# Altium schematic symbol library MainLibrary.SchLib: 144 symbols (part 1 of 2)
Pins are listed as number, name and electrical type; pins without a type are passive.

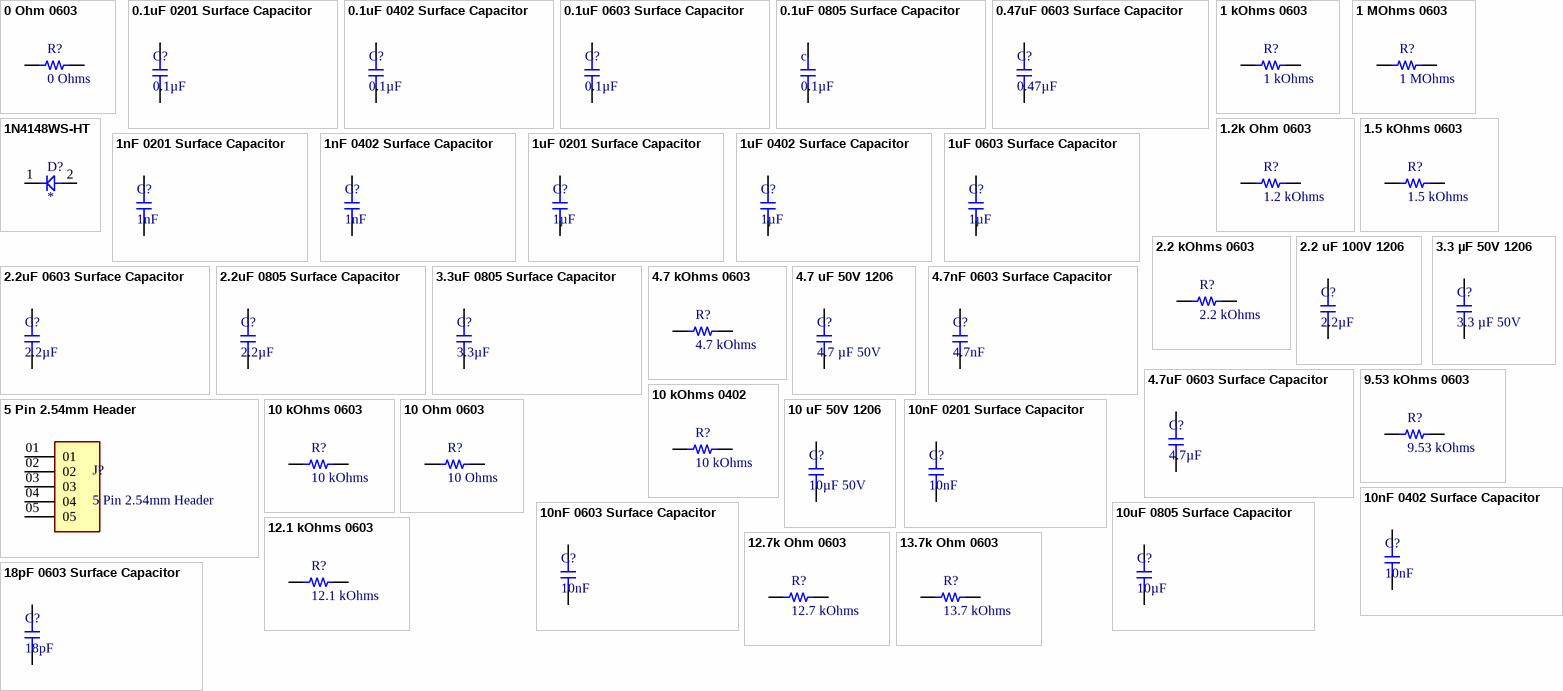
[diagram p0: symbols 0 Ohm 0603 to 18pF 0603 Surface Capacitor]

## 0 Ohm 0603
designator R?, comment 0 Ohms
0 Ohm 0603
footprint 0603_RES
pins: 1, 2

## 0.1uF 0201 Surface Capacitor
designator C?, comment 0.1µF
0.1uF 0201 Surface Capacitor
footprint 0201_CAP
pins: 1, 2

## 0.1uF 0402 Surface Capacitor
designator C?, comment 0.1µF
0.1uF 0402 Surface Capacitor
footprint 0402_CAP
pins: 1, 2

## 0.1uF 0603 Surface Capacitor
designator C?, comment 0.1µF
0.1uF 0603 Surface Capacitor
footprint 0603_Footprint
pins: 1, 2

## 0.1uF 0805 Surface Capacitor
designator c, comment 0.1µF
0.1uF 0805 Surface Capacitor
footprint 0805
pins: 1, 2

## 0.47uF 0603 Surface Capacitor
designator C?, comment 0.47µF
0.47uF 0603 Surface Capacitor
footprint 0603_Footprint
pins: 1, 2

## 1 kOhms 0603
designator R?, comment 1 kOhms
1 kOhms 0603
footprint 0603_RES
pins: 1, 2

## 1 MOhms 0603
designator R?, comment 1 MOhms
1 MOhms 0603
footprint 0603_RES
pins: 1, 2

## 1.2k Ohm 0603
designator R?, comment 1.2 kOhms
1.2k Ohm 0603
footprint 0603_RES
pins: 1, 2

## 1.5 kOhms 0603
designator R?, comment 1.5 kOhms
1.5 kOhms 0603
footprint 0603_RES
pins: 1, 2

## 1N4148WS-HT
designator D?
75V 150mA Fast Switching Diode SMD; Manufacturer_Name: Vishay; Manufacturer_Part_Number: 1N4148WS-HT; Datasheet Link: https://www.vishay.com/docs/85751/1n4148ws.pdf; Height: 1.15mm; Mouser Part Number: 1N4148WS-HT; Mouser Price/Stock: https://www.mouser.co.uk/ProductDetail/Vishay-Semiconductors/1N4148WS-E3-18?qs=bTzheeSci6SMGZleBxLU%2Fg%3D%3D; Arrow Part Number: 1N4148WS-E3-18; Arrow Price/Stock: https://www.arrow.com/en/products/1n4148ws-e3-18/vishay?region=nac
footprint SOD2713X115N
pins: 1 K, 2 A

## 1nF 0201 Surface Capacitor
designator C?, comment 1nF
1nF 0201 Surface Capacitor
footprint 0201_CAP
pins: 1, 2

## 1nF 0402 Surface Capacitor
designator C?, comment 1nF
1nF 0402 Surface Capacitor
footprint 0402_CAP
pins: 1, 2

## 1uF 0201 Surface Capacitor
designator C?, comment 1µF
1uF 0201 Surface Capacitor
footprint 0201_CAP
pins: 1, 2

## 1uF 0402 Surface Capacitor
designator C?, comment 1µF
1uF 0402 Surface Capacitor
footprint 0402_CAP
pins: 1, 2

## 1uF 0603 Surface Capacitor
designator C?, comment 1µF
1uF 0603 Surface Capacitor
footprint 0603_Footprint
pins: 1, 2

## 2.2 kOhms 0603
designator R?, comment 2.2 kOhms
2.2 kOhms 0603
footprint 0603_RES
pins: 1, 2

## 2.2 uF 100V 1206
designator C?, comment 2.2µF
2.2 uF 100V 1206
footprint 1206_10uF
pins: 1, 2

## 2.2uF 0603 Surface Capacitor
designator C?, comment 2.2µF
2.2uF 0603 Surface Capacitor
footprint 0603_Footprint
pins: 1, 2

## 2.2uF 0805 Surface Capacitor
designator C?, comment 2.2µF
2.2uF 0805 Surface Capacitor
footprint 0805
pins: 1, 2

## 3.3 µF 50V 1206
designator C?, comment 3.3 µF 50V
3.3 µF 50V 1206
footprint 1206_10uF
pins: 1, 2

## 3.3uF 0805 Surface Capacitor
designator C?, comment 3.3µF
3.3uF 0805 Surface Capacitor
footprint 0805
pins: 1, 2

## 4.7 kOhms 0603
designator R?, comment 4.7 kOhms
4.7 kOhms 0603
footprint 0603_RES
pins: 1, 2

## 4.7 uF 50V 1206
designator C?, comment 4.7 µF 50V
10 uF 50V 1206
footprint 1206_10uF
pins: 1, 2

## 4.7nF 0603 Surface Capacitor
designator C?, comment 4.7nF
4.7nF 0603 Surface Capacitor
footprint 0603_Footprint
pins: 1, 2

## 4.7uF 0603 Surface Capacitor
designator C?, comment 4.7µF
4.7uF 0603 Surface Capacitor
footprint 0603_Footprint
pins: 1, 2

## 5 Pin 2.54mm Header
designator J?
Generic 2.54MM 5 Pin Header; MP: MTSW-105-09-G-S-480; Availability: Unavailable; Package: None; Value: *; Price: None
footprint 5PIN_254MM
pins: 01, 02, 03, 04, 05

## 9.53 kOhms 0603
designator R?, comment 9.53 kOhms
9.53 kOhms 0603
footprint 0603_RES
pins: 1, 2

## 10 kOhms 0402
designator R?, comment 10 kOhms
10 kOhm 0402
footprint 0402_RES
pins: 1, 2

## 10 kOhms 0603
designator R?, comment 10 kOhms
10 kOhms 0603
footprint 0603_RES
pins: 1, 2

## 10 Ohm 0603
designator R?, comment 10 Ohms
10 Ohms 0603
footprint 0603_RES
pins: 1, 2

## 10 uF 50V 1206
designator C?, comment 10µF 50V
10 uF 50V 1206
footprint 1206_10uF
pins: 1, 2

## 10nF 0201 Surface Capacitor
designator C?, comment 10nF
10nF 0201 Surface Capacitor
footprint 0201_CAP
pins: 1, 2

## 10nF 0402 Surface Capacitor
designator C?, comment 10nF
10nF 0402 Surface Capacitor
footprint 0402_CAP
pins: 1, 2

## 10nF 0603 Surface Capacitor
designator C?, comment 10nF
10nF 0603 Surface Capacitor
footprint 0603_Footprint
pins: 1, 2

## 10uF 0805 Surface Capacitor
designator C?, comment 10µF
10uF 0805 Surface Capacitor
footprint 0805
pins: 1, 2

## 12.1 kOhms 0603
designator R?, comment 12.1 kOhms
12.1 kOhms 0603
footprint 0603_RES
pins: 1, 2

## 12.7k Ohm 0603
designator R?, comment 12.7 kOhms
12.7k Ohm 0603
footprint 0603_RES
pins: 1, 2

## 13.7k Ohm 0603
designator R?, comment 13.7 kOhms
13.7 kOhms 0603
footprint 0603_RES
pins: 1, 2

## 18pF 0603 Surface Capacitor
designator C?, comment 18pF
18pF 0603 Surface Capacitor
footprint 0603_Footprint
pins: 1, 2

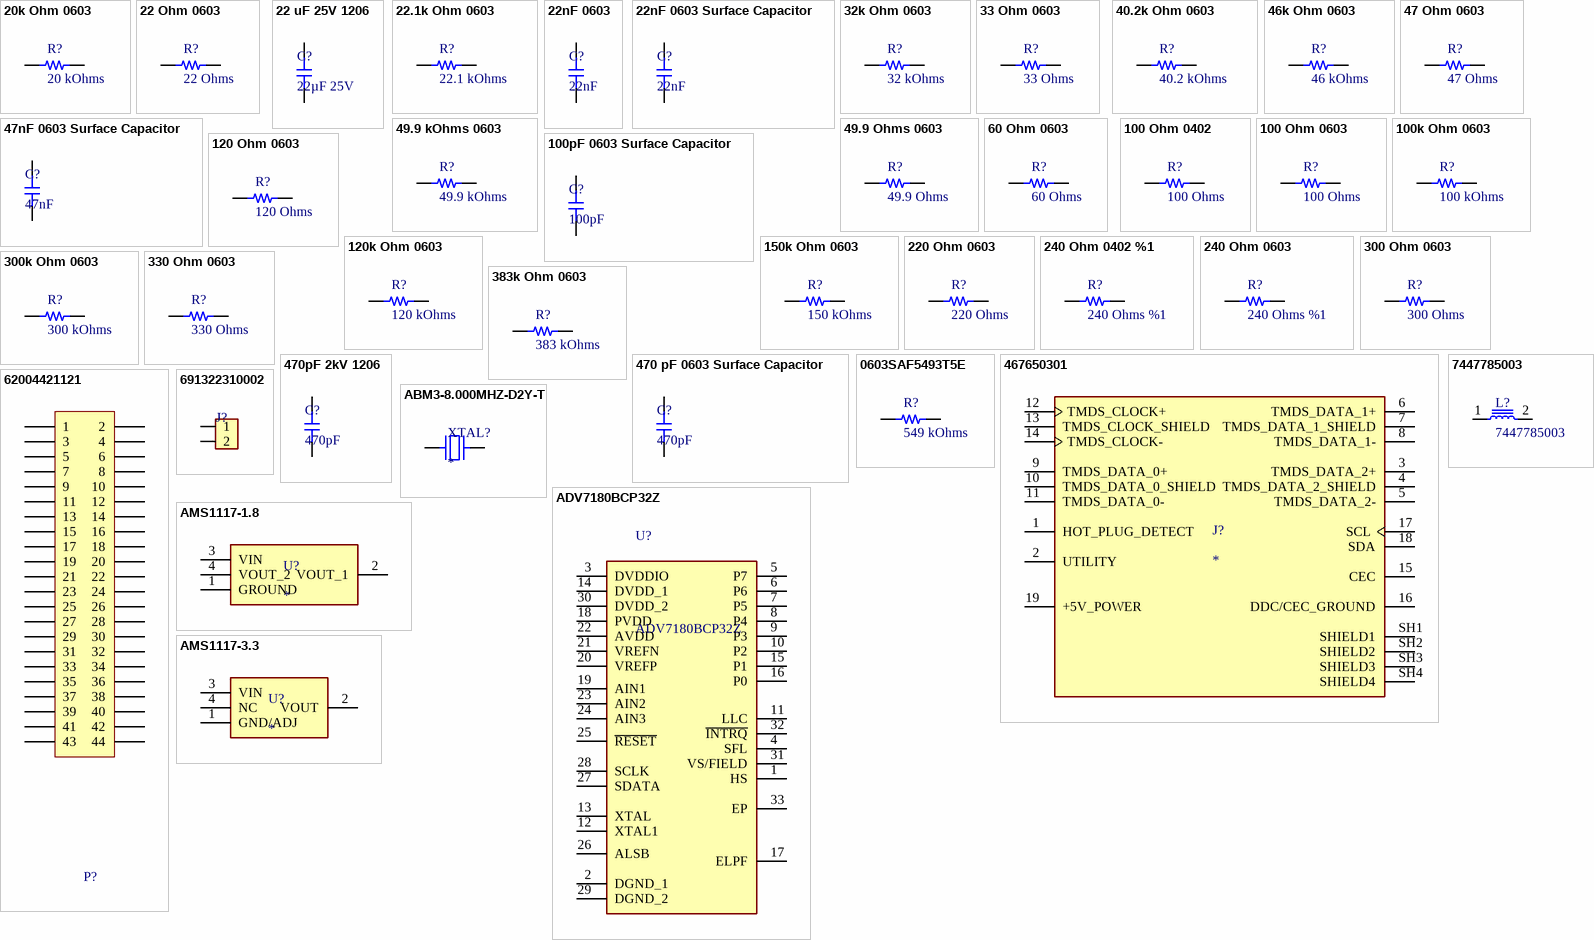
[diagram p1: symbols 20k Ohm 0603 to AMS1117-3.3]

## 20k Ohm 0603
designator R?, comment 20 kOhms
20k Ohm 0603
footprint 0603_RES
pins: 1, 2

## 22 Ohm 0603
designator R?, comment 22 Ohms
22 Ohms 0603
footprint 0603_RES
pins: 1, 2

## 22 uF 25V 1206
designator C?, comment 22µF 25V
22 uF 25V 1206
footprint 1206_10uF
pins: 1, 2

## 22.1k Ohm 0603
designator R?, comment 22.1 kOhms
22.1 kOhms 0603
footprint 0603_RES
pins: 1, 2

## 22nF 0603
designator C?, comment 22nF
22nF 0603 Surface Capacitor
footprint 0603_Footprint
pins: 1, 2

## 22nF 0603 Surface Capacitor
designator C?, comment 22nF
22nF 0603 Surface Capacitor
footprint 0603_Footprint
pins: 1, 2

## 32k Ohm 0603
designator R?, comment 32 kOhms
32k Ohm 0603
footprint 0603_RES
pins: 1, 2

## 33 Ohm 0603
designator R?, comment 33 Ohms
33 Ohm 0603
footprint 0603_RES
pins: 1, 2

## 40.2k Ohm 0603
designator R?, comment 40.2 kOhms
40.2k Ohm 0603
footprint 0603_RES
pins: 1, 2

## 46k Ohm 0603
designator R?, comment 46 kOhms
46k Ohm 0603
footprint 0603_RES
pins: 1, 2

## 47 Ohm 0603
designator R?, comment 47 Ohms
47 Ohm 0603
footprint 0603_RES
pins: 1, 2

## 47nF 0603 Surface Capacitor
designator C?, comment 47nF
47nF 0603 Surface Capacitor
footprint 0603_Footprint
pins: 1, 2

## 49.9 kOhms 0603
designator R?, comment 49.9 kOhms
49.9 kOhms 0603
footprint 0603_RES
pins: 1, 2

## 49.9 Ohms 0603
designator R?, comment 49.9 Ohms
49.9 Ohms 0603
footprint 0603_RES
pins: 1, 2

## 60 Ohm 0603
designator R?, comment 60 Ohms
60 Ohm 0603
footprint 0603_RES
pins: 1, 2

## 100 Ohm 0402
designator R?, comment 100 Ohms
100 Ohm 0402
footprint 0402_RES
pins: 1, 2

## 100 Ohm 0603
designator R?, comment 100 Ohms
100 Ohm 0603
footprint 0603_RES
pins: 1, 2

## 100k Ohm 0603
designator R?, comment 100 kOhms
100k Ohm 0603
footprint 0603_RES
pins: 1, 2

## 100pF 0603 Surface Capacitor
designator C?, comment 100pF
100pF 0603 Surface Capacitor
footprint 0603_Footprint
pins: 1, 2

## 120 Ohm 0603
designator R?, comment 120 Ohms
120 Ohm 0603
footprint 0603_RES
pins: 1, 2

## 120k Ohm 0603
designator R?, comment 120 kOhms
120k Ohm 0603
footprint 0603_RES
pins: 1, 2

## 150k Ohm 0603
designator R?, comment 150 kOhms
150k Ohm 0603
footprint 0603_RES
pins: 1, 2

## 220 Ohm 0603
designator R?, comment 220 Ohms
220 Ohms 0603
footprint 0603_RES
pins: 1, 2

## 240 Ohm 0402 %1
designator R?, comment 240 Ohms %1
240 Ohm 0402 %1
footprint 0402_RES
pins: 1, 2

## 240 Ohm 0603
designator R?, comment 240 Ohms %1
footprint 0603_RES
pins: 1, 2

## 300 Ohm 0603
designator R?, comment 300 Ohms
300 Ohm 0603
footprint 0603_RES
pins: 1, 2

## 300k Ohm 0603
designator R?, comment 300 kOhms
300k Ohm 0603
footprint 0603_RES
pins: 1, 2

## 330 Ohm 0603
designator R?, comment 330 Ohms
330 Ohm 0603
footprint 0603_RES
pins: 1, 2

## 383k Ohm 0603
designator R?, comment 383 kOhms
383k Ohm 0603
footprint 0603_RES
pins: 1, 2

## 470 pF 0603 Surface Capacitor
designator C?, comment 470pF
470 pF 0603 Surface Capacitor
footprint 0603_Footprint
pins: 1, 2

## 470pF 2kV 1206
designator C?, comment 470pF
470pF 2kV 1206
footprint 1206_10uF
pins: 1, 2

## 0603SAF5493T5E
designator R?, comment 549 kOhms
0805 549 kOhms 5% 1/8W-S 100PPM
footprint 0603_RES
pins: 1, 2

## 467650301
designator J?
0.40mm Pitch Micro HDMI Connector, Right-Angle Receptacle, Surface Mount, with Pick-and-Place Polyimide Tape, 19 Circuits, Lead-Free; MF: Molex; MP: 467650301; SnapEDA_Link: https://www.snapeda.com/parts/467650301/Molex/view-part/?ref=snap; Package: None; Value: *; Check_prices: https://www.snapeda.com/parts/467650301/Molex/view-part/?ref=eda
footprint MOLEX_467650301
pins: 1 HOT_PLUG_DETECT, 2 UTILITY, 3 TMDS_DATA_2+, 4 TMDS_DATA_2_SHIELD, 5 TMDS_DATA_2-, 6 TMDS_DATA_1+, 7 TMDS_DATA_1_SHIELD, 8 TMDS_DATA_1-, 9 TMDS_DATA_0+, 10 TMDS_DATA_0_SHIELD, 11 TMDS_DATA_0-, 12 TMDS_CLOCK+, 13 TMDS_CLOCK_SHIELD, 14 TMDS_CLOCK-, 15 CEC, 16 DDC/CEC_GROUND, 17 SCL, 18 SDA, 19 +5V_POWER, SH1 SHIELD1, SH2 SHIELD2, SH3 SHIELD3, SH4 SHIELD4

## 7447785003
designator L?
7447785003 2.8A Inductor; Manufacturer_Name: Vishay; Manufacturer_Part_Number: IHLP2525CZER220M8A; Datasheet Link: https://componentsearchengine.com/Datasheets/2/IHLP2525CZER220M8A.pdf; Height: 3mm; Mouser Part Number: 70-IHLP2525CZR220M8A; Mouser Price/Stock: https://www.mouser.co.uk/ProductDetail/Vishay-Dale/IHLP2525CZER220M8A?qs=ei%2FvZTf36ZyKyW60gc1ORQ%3D%3D; Arrow Part Number: IHLP2525CZER220M8A; Arrow Price/Stock: https://www.arrow.com/en/products/ihlp2525czer220m8a/vishay
footprint 7447785003
pins: 1, 2

## 62004421121
designator P?  (value not drawn)
WR-PHD Pin Header, THT, Vertical, pitch 2mm, 2 Row, 44P; Manufacturer: Wurth Elektronik; Contact Resistance: 20mOhm; Rated Current: 2A; Working Voltage: 200V; Withstanding Voltage: 500V; Manufacturer Part Number: 62004421121; Category: Board-to-Board Connectors; Match Code: WR-PHD; ComponentLink1Description: Website Link; ComponentLink1URL: https://www.we-online.com/redexpert/article/62004421121?ad; ComponentLink2Description: Datasheet Link; ComponentLink2URL: https://www.we-online.com/redexpert/spec/62004421121?ad; Mount: Through Hole; Operating Temperature Max: 105°C; Operating Temperature Min: -40°C; Packaging: Bag; Gender: Pin Header; Number of Pins: 44; Number of Rows: 2; Orientation: Vertical; Pitch: 2mm
footprint 62004421121 (2.00 mm THT Dual Pin Header, 44p)
pins: 1, 2, 3, 4, 5, 6, 7, 8, 9, 10, 11, 12, 13, 14, 15, 16, 17, 18, 19, 20, 21, 22, 23, 24, 25, 26, 27, 28, 29, 30, 31, 32, 33, 34, 35, 36, 37, 38, 39, 40, 41, 42, 43, 44

## 691322310002
designator J?  (value not drawn)
WURTH 3.81MM Terminal Block 691322310002
footprint WURH_3_81_691322310002
pins: 1, 2

## ABM3-8.000MHZ-D2Y-T
designator XTAL?
8MHz 2 Pin SMD Crystal; Manufacturer_Name: ABRACON; Manufacturer_Part_Number: ABM3-8.000MHZ-D2Y-T; Datasheet Link: https://abracon.com/Resonators/abm3.pdf; Height: 1.3mm; Mouser Part Number: 815-ABM3-8-D2Y-T; Mouser Price/Stock: https://www.mouser.co.uk/ProductDetail/ABRACON/ABM3-8.000MHZ-D2Y-T?qs=ihRgKfnEsN4giUXjc3yS1g%3D%3D; Arrow Part Number: ABM3-8.000MHZ-D2Y-T; Arrow Price/Stock: https://www.arrow.com/en/products/abm3-8.000mhz-d2y-t/abracon?region=europe
footprint ABM3
pins: 1, 2

## ADV7180BCP32Z
designator U?
VIDEO ENCODER/DECODER; Manufacturer_Name: Analog Devices; Geometry.Height: 0.8mm; Manufacturer_Part_Number: ADV7180BCP32Z; Mouser Part Number: 584-ADV7180BCP32Z; Mouser Price/Stock: https://www.mouser.co.uk/ProductDetail/Analog-Devices/ADV7180BCP32Z?qs=sMtB33eOQTJzOyoLomhd3Q%3D%3D; Arrow Part Number: ADV7180BCP32Z; Arrow Price/Stock: https://www.arrow.com/en/products/adv7180bcp32z/analog-devices; Datasheet Link: https://ms.componentsearchengine.com/Datasheets/2/ADV7180BCP32Z.pdf
footprint QFN50P500X500X80-33N-D
pins: 1 HS, 2 DGND_1, 3 DVDDIO, 4 SFL, 5 P7, 6 P6, 7 P5, 8 P4, 9 P3, 10 P2, 11 LLC, 12 XTAL1, 13 XTAL, 14 DVDD_1, 15 P1, 16 P0, 17 ELPF, 18 PVDD, 19 AIN1, 20 VREFP, 21 VREFN, 22 AVDD, 23 AIN2, 24 AIN3, 25 ~{RESET}, 26 ALSB, 27 SDATA, 28 SCLK, 29 DGND_2, 30 DVDD_2, 31 VS/FIELD, 32 ~{INTRQ}, 33 EP

## AMS1117-1.8
designator U?
1.8V LDO; Manufacturer_Name: Advanced Monolithic Systems; Manufacturer_Part_Number: AMS1117-1.8; Datasheet Link: https://datasheet.datasheetarchive.com/originals/distributors/Datasheets-1/DSA-6085.pdf; Height: 1.8mm
footprint SOT229P700X180-4N
pins: 1 GROUND, 2 VOUT_1, 3 VIN, 4 VOUT_2

## AMS1117-3.3
designator U?
3.3V LDO; Manufacturer_Name: Advanced; Manufacturer_Part_Number: AMS1117-3.3; Datasheet Link: https://datasheet.datasheetarchive.com/originals/distributors/Datasheets-28/DSA-550594.pdf; Height: 1.8mm
footprint SOT229P700X180-4N
pins: 1 GND/ADJ, 2 VOUT, 3 VIN, 4 NC

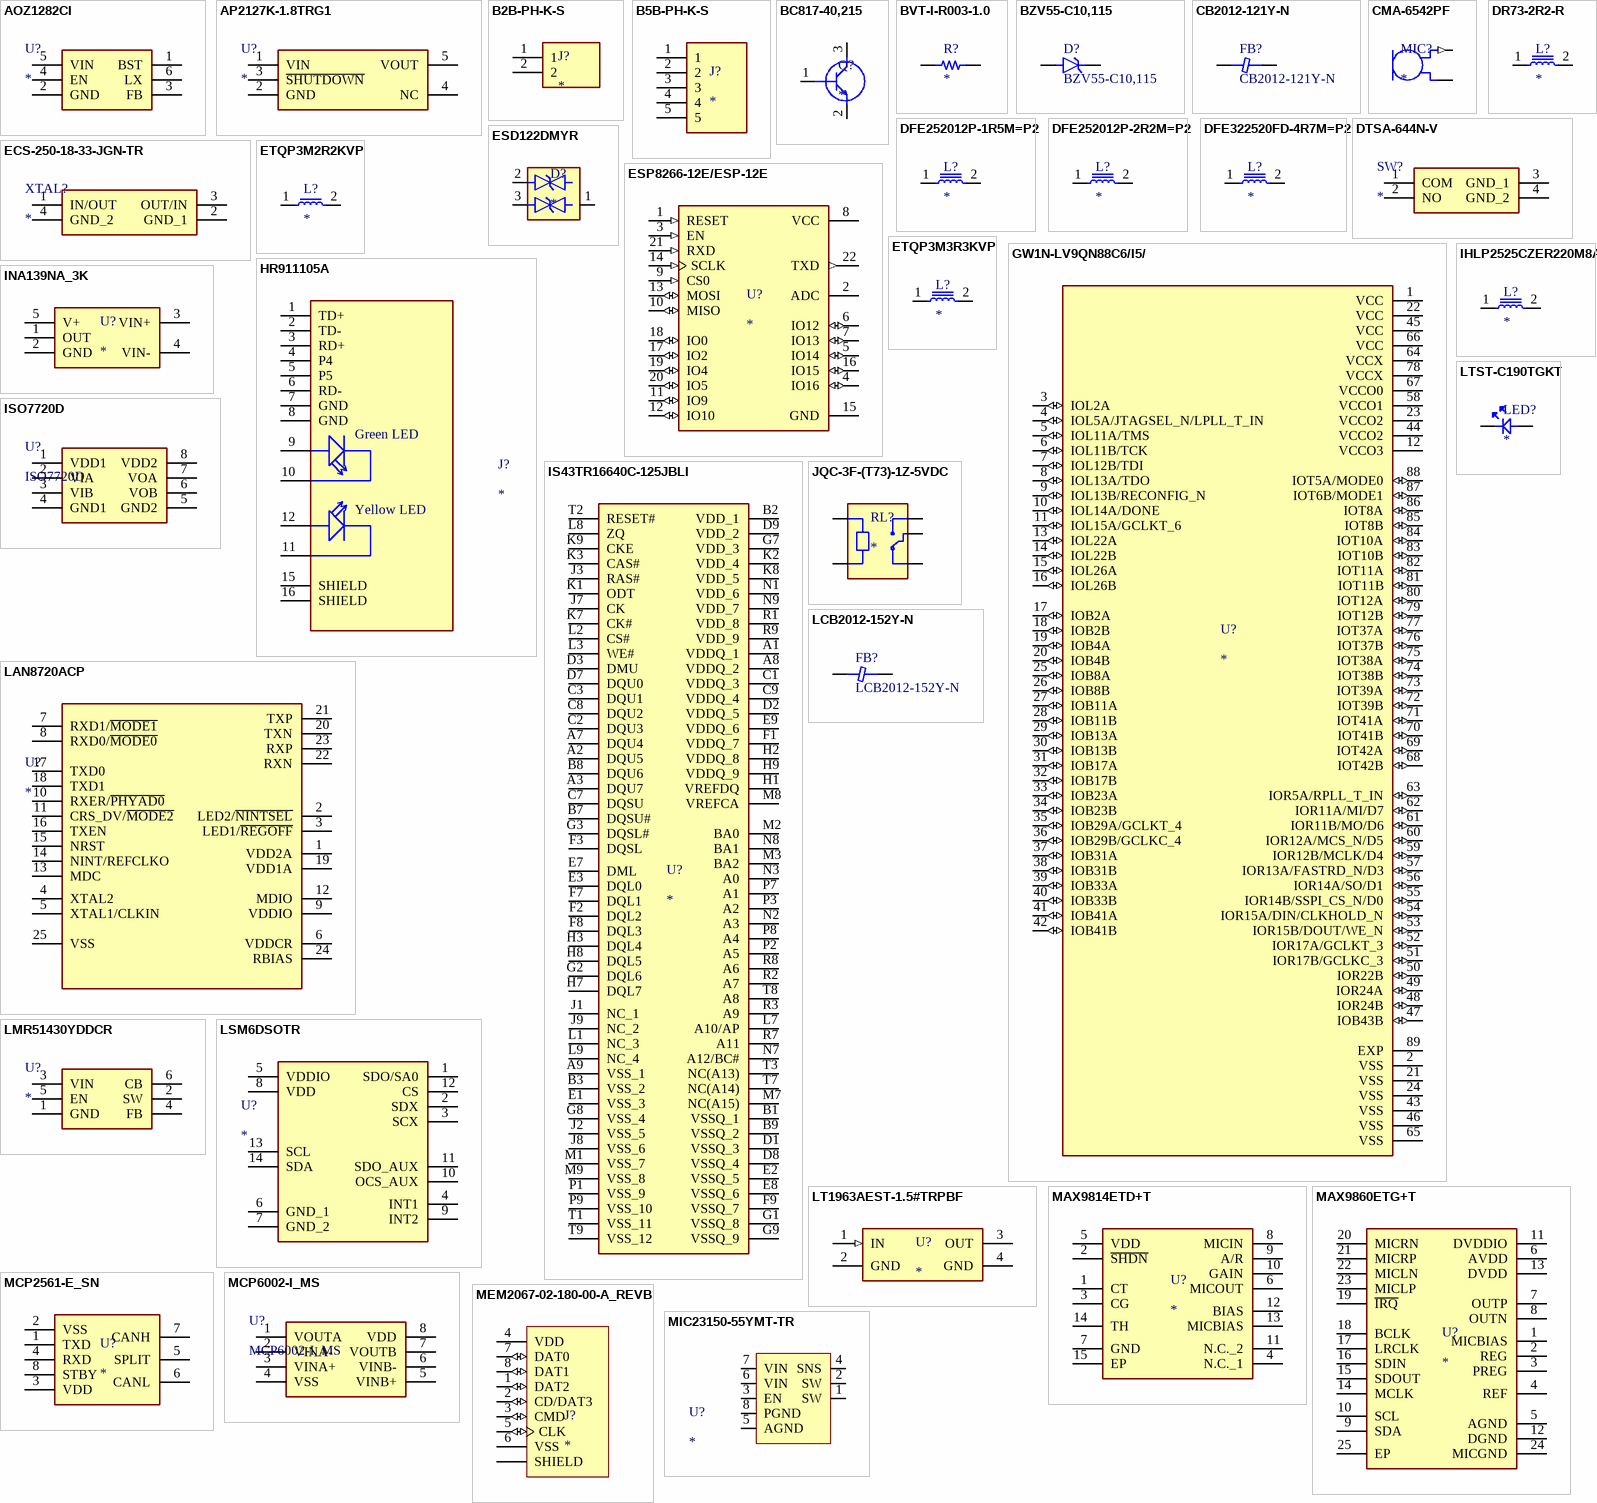
[diagram p2: symbols AOZ1282CI to MIC23150-55YMT-TR]

## AOZ1282CI
designator U?
+36V 1.2A Buck Converter; Manufacturer_Name: Alpha & Omega Semiconductors; Manufacturer_Part_Number: AOZ1282CI; Datasheet Link: http://www.aosmd.com/res/data_sheets/AOZ1282CI.pdf; Height: 1.25mm; Arrow Part Number: AOZ1282CI; Arrow Price/Stock: https://www.arrow.com/en/products/aoz1282ci/alpha-and-omega-semiconductor?region=nac
footprint SOT95P280X125-6N
pins: 1 BST, 2 GND, 3 FB, 4 EN, 5 VIN, 6 LX

## AP2127K-1.8TRG1
designator U?
1.8V Fixed LDO; Manufacturer_Name: Diodes Incorporated; Manufacturer_Part_Number: AP2127K-1.8TRG1; Datasheet Link: https://www.diodes.com//assets/Datasheets/AP2127.pdf; Height: 1.45mm; Mouser Part Number: 621-AP2127K-1.8TRG1; Mouser Price/Stock: https://www.mouser.co.uk/ProductDetail/Diodes-Incorporated/AP2127K-1.8TRG1?qs=x6A8l6qLYDDmU4WXw4%252BBlA%3D%3D; Arrow Part Number: AP2127K-1.8TRG1; Arrow Price/Stock: https://www.arrow.com/en/products/ap2127k-1.8trg1/diodes-incorporated?region=nac
footprint SOT95P282X145-5N
pins: 1 VIN, 2 GND, 3 ~{SHUTDOWN}, 4 NC, 5 VOUT

## B2B-PH-K-S
designator J?
Connector Header Through Hole 2 position 0.079 (2.00mm); MF: JST Sales America Inc.; MP: B2B-PH-K-S; SnapEDA_Link: https://www.snapeda.com/parts/B2B-PH-K-S/JST/view-part/?ref=snap; Package: None; Value: *; Check_prices: https://www.snapeda.com/parts/B2B-PH-K-S/JST/view-part/?ref=eda
footprint JST_B2B-PH-K-S
pins: 1, 2

## B5B-PH-K-S
designator J?
THT 2MM Connector; MF: {'manufacturer': u'JST Sales America Inc.'}; MP: B5B-PH-K-S; Package: None; Price: None; Value: *; Availability: Unavailable
footprint JST_B5B-PH-K-S
pins: 1, 2, 3, 4, 5

## BC817-40,215
designator Q?
0.5A 45V BJT NPN Transistor SOT23 SMD; Manufacturer_Name: Nexperia; Manufacturer_Part_Number: BC817-40,215; Datasheet Link: https://assets.nexperia.com/documents/data-sheet/BC817_SER.pdf; Height: 1.1mm; Mouser Part Number: 771-BC817-40-T/R; Mouser Price/Stock: https://www.mouser.co.uk/ProductDetail/Nexperia/BC817-40215?qs=me8TqzrmIYU%252B245p8hOLaQ%3D%3D; Arrow Part Number: BC817-40,215; Arrow Price/Stock: https://www.arrow.com/en/products/bc817-40215/nexperia?region=nac
footprint BC81740215
pins: 1 B, 2 E, 3 C

## BVT-I-R003-1.0
designator R?
3mOhm Resistor 2510 SMD Package; Manufacturer_Name: Isabellenhutte; Manufacturer_Part_Number: BVT-I-R003-1.0; Datasheet Link: https://www.isabellenhuetteusa.com/wp-content/uploads/2020/05/BVT.pdf; Height: 0.38mm
footprint BVTIR00310
pins: 1, 2

## BZV55-C10,115
designator D?
500mW 10V Zener Diode; MP: BZV55C47_L1; Value: *; Availability: Unavailable; Package: None; Price: None
footprint DIOMELF3515N
pins: A, C K

## CB2012-121Y-N
designator FB?
Ferrite Bead 300mA 0805 SMD
footprint Inductor-0805
pins: 1, 2

## CMA-6542PF
designator MIC?
9.7 mm, Omnidirectional, PCB Mount, 4.5 Vdc, Electret Condenser Microphone; MP: CMA-6542PF; MF: CUI Devices; Check_prices: https://www.snapeda.com/parts/CMA-6542PF/CUI+Devices/view-part/?ref=eda; Price: None; Availability: In Stock; Package: None; SnapEDA_Link: https://www.snapeda.com/parts/CMA-6542PF/CUI+Devices/view-part/?ref=snap; Value: *; Purchase-URL: https://pricing.snapeda.com/search/part/CMA-6542PF/?ref=eda; CUI_purchase_URL: https://www.cuidevices.com/product/audio/microphones/electret-condenser-microphones/cma-6542pf?utm_source=snapeda.com&utm_medium=referral&utm_campaign=snapedaBOM
footprint CUI_CMA-6542PF
pins: GND (power), OUT (out)

## DFE252012P-1R5M=P2
designator L?
Fixed Inductor 1.5uH 3.5A R060 SMD; MP: DFE252012P-1R5M=P2; Package: None; Price: None; Value: *; Availability: Unavailable
footprint INDC2520X120N
pins: 1, 2

## DFE252012P-2R2M=P2
designator L?
Inductor with Inductance: 2.2uH Tol. +/-20%, Package: 1008 (2520); MF: Murata Electronics; MP: DFE252012P-2R2M=P2; Price: None; SnapEDA_Link: https://www.snapeda.com/parts/DFE252012P-2R2M=P2/Murata%20Electronics%20North%20America/view-part/1499531/?ref=snap; Check_prices: https://www.snapeda.com/parts/DFE252012P-2R2M=P2/Murata%20Electronics%20North%20America/view-part/1499531/?ref=eda; Value: *; Package: 2520 Murata; Purchase-URL: https://pricing.snapeda.com/search/part/DFE252012P-2R2M=P2/?ref=eda; Availability: Good
footprint INDC2520X120N
pins: 1, 2

## DFE322520FD-4R7M=P2
designator L?
Inductor with Inductance: 4.7uH Tol. +/-20%, Package: 1210 (3225); MP: DFE322520FD-4R7M=P2; MF: Murata Electronics; Package: 3225 Murata; Purchase-URL: https://pricing.snapeda.com/search/part/DFE322520FD-4R7M=P2/?ref=eda; Check_prices: https://www.snapeda.com/parts/DFE322520FD-4R7M=P2/Murata/view-part/?ref=eda; Value: *; Digi-Key_Part_Number: 490-18407-2-ND; SnapEDA_Link: https://www.snapeda.com/parts/DFE322520FD-4R7M=P2/Murata/view-part/?ref=snap
footprint INDC3225X200N
pins: 1, 2

## DR73-2R2-R
designator L?
2.2 µH Shielded Drum Core, Wirewound Inductor 4.15 A 16.5mOhm Nonstandard; MF: Eaton; MP: DR73-2R2-R; SnapEDA_Link: https://www.snapeda.com/parts/DR73-2R2-R/Eaton/view-part/?ref=snap; Price: None; Availability: In Stock; Value: *; Check_prices: https://www.snapeda.com/parts/DR73-2R2-R/Eaton/view-part/?ref=eda; Purchase-URL: https://pricing.snapeda.com/search/part/DR73-2R2-R/?ref=eda; Package: NON-STANDARD Eaton
footprint INDM7676X355N
pins: 1, 2

## DTSA-644N-V
designator SW?
Button DIP; Manufacturer_Name: Diptronics; Manufacturer_Part_Number: DTSA-644N-V; Datasheet Link: https://ru.mouser.com/ProductDetail/Diptronics/DTSA-644N-V?qs=gTYE2QTfZfTLDusQpQJufA%3D%3D; Height: 8mm; Mouser Part Number: 113-DTSA-644N-V; Mouser Price/Stock: https://www.mouser.co.uk/ProductDetail/Diptronics/DTSA-644N-V?qs=gTYE2QTfZfTLDusQpQJufA%3D%3D
footprint DTSA644NV
pins: 1 COM, 2 NO, 3 GND_1, 4 GND_2

## ECS-250-18-33-JGN-TR
designator XTAL?
25 MHz 4 Pin Crystal OSC SMD; Manufacturer_Name: ECS; Manufacturer_Part_Number: ECS-250-18-33-JGN-TR; Datasheet Link: https://componentsearchengine.com/Datasheets/1/ECS-250-18-33-JGN-TR.pdf; Height: 0.8mm; Mouser Part Number: 520-250-18-33-JGNT; Mouser Price/Stock: https://www.mouser.co.uk/ProductDetail/ECS/ECS-250-18-33-JGN-TR?qs=AQlKX63v8RsjuKdEYMjMow%3D%3D; Arrow Part Number: ECS-250-18-33-JGN-TR; Arrow Price/Stock: https://www.arrow.com/en/products/ecs-250-18-33-jgn-tr/ecs-international?region=nac
footprint ECS2501833JGNTR
pins: 1 IN/OUT, 2 GND_1, 3 OUT/IN, 4 GND_2

## ESD122DMYR
designator D?
Dual 0.2-pF, Â±3.6-V, Â±18-kV ESD protection diode for USB Type-C and HDMI 2.0; MF: Texas Instruments; MP: ESD122DMYR; SnapEDA_Link: https://www.snapeda.com/parts/ESD122DMYR/Texas+Instruments/view-part/?ref=snap; Package: X2SON-3 Texas Instruments; Value: *; Check_prices: https://www.snapeda.com/parts/ESD122DMYR/Texas+Instruments/view-part/?ref=eda
footprint DIO_ESD122DMYR
pins: 1 GND (power), 2 IO1, 3 IO2

## ESP8266-12E/ESP-12E
designator U?
Integrated ESP8266 Ex + 4MB Flash 32 Bit 80-160MHz Wifi Microcontroller.; MF: AI-Thinker; MP: ESP8266-12E/ESP-12E; Value: *; SnapEDA_Link: https://www.snapeda.com/parts/ESP8266-12E/ESP-12E/AI-Thinker/view-part/?ref=snap; Availability: Not in stock; Price: None; Package: None; Check_prices: https://www.snapeda.com/parts/ESP8266-12E/ESP-12E/AI-Thinker/view-part/?ref=eda
footprint XCVR_ESP8266-12E/ESP-12E
pins: 1 RESET (in), 2 ADC, 3 EN (in), 4 IO16 (io), 5 IO14 (io), 6 IO12 (io), 7 IO13 (io), 8 VCC (power), 9 CS0 (in), 10 MISO (io), 11 IO9 (io), 12 IO10 (io), 13 MOSI (io), 14 SCLK (in), 15 GND (power), 16 IO15 (io), 17 IO2 (io), 18 IO0 (io), 19 IO4 (io), 20 IO5 (io), 21 RXD (in), 22 TXD (out)

## ETQP3M2R2KVP
designator L?
Power Choke Shielded Wirewound 2.2uH 20% 100KHz Metal 6.3A 0.022Ohm DCR Automotive T/R; MP: ETQ-P3M2R2KVP; MF: Panasonic Electronic; SnapEDA_Link: https://www.snapeda.com/parts/ETQ-P3M2R2KVP/Panasonic+Electronic+Components/view-part/?ref=snap; Purchase-URL: https://pricing.snapeda.com/search/part/ETQ-P3M2R2KVP/?ref=eda; Availability: In Stock; Package: SMD-2 Panasonic; Price: None; Value: *; Check_prices: https://www.snapeda.com/parts/ETQ-P3M2R2KVP/Panasonic+Electronic+Components/view-part/?ref=eda
footprint IND_ETQP3M3R3KVP
pins: 1, 2

## ETQP3M3R3KVP
designator L?
3.3H Shielded Inductor 5.4A 30.03mOhm Max 2-SMD, J-Lead; MF: Panasonic; MP: ETQP3M3R3KVP; Price: None; SnapEDA_Link: https://www.snapeda.com/parts/ETQP3M3R3KVP/Panasonic/view-part/5787884/?ref=snap; Availability: In Stock; Value: *; Check_prices: https://www.snapeda.com/parts/ETQP3M3R3KVP/Panasonic/view-part/5787884/?ref=eda; Package: SMD-2 Panasonic
footprint IND_ETQP3M3R3KVP
pins: 1, 2

## GW1N-LV9QN88C6/I5/
designator U?
Volatile SRAM based and non-volatile flash-based field-programmable gate array (FPGA) technology; MP: GW1N-LV9QN88C6/I5/; MF: Gowin Semiconductor; Value: *; Package: Package; Check_prices: https://www.snapeda.com/parts/GW1N-LV9QN88C6/I5//Gowin%20Semiconductor/view-part/6058179/?ref=eda; Price: None; SnapEDA_Link: https://www.snapeda.com/parts/GW1N-LV9QN88C6/I5//Gowin%20Semiconductor/view-part/6058179/?ref=snap; Availability: No availability data
footprint QFN40P1000X1000X95-89N
pins: 1 VCC (power), 2 VSS (power), 3 IOL2A (io), 4 IOL5A/JTAGSEL_N/LPLL_T_IN (io), 5 IOL11A/TMS (io), 6 IOL11B/TCK (io), 7 IOL12B/TDI (io), 8 IOL13A/TDO (io), 9 IOL13B/RECONFIG_N (io), 10 IOL14A/DONE (io), 11 IOL15A/GCLKT_6 (io), 12 VCCO3 (power), 13 IOL22A (io), 14 IOL22B (io), 15 IOL26A (io), 16 IOL26B (io), 17 IOB2A (io), 18 IOB2B (io), 19 IOB4A (io), 20 IOB4B (io), 21 VSS (power), 22 VCC (power), 23 VCCO2 (power), 24 VSS (power), 25 IOB8A (io), 26 IOB8B (io), 27 IOB11A (io), 28 IOB11B (io), 29 IOB13A (io), 30 IOB13B (io), 31 IOB17A (io), 32 IOB17B (io), 33 IOB23A (io), 34 IOB23B (io), 35 IOB29A/GCLKT_4 (io), 36 IOB29B/GCLKC_4 (io), 37 IOB31A (io), 38 IOB31B (io), 39 IOB33A (io), 40 IOB33B (io), 41 IOB41A (io), 42 IOB41B (io), 43 VSS (power), 44 VCCO2 (power), 45 VCC (power), 46 VSS (power), 47 IOB43B (io), 48 IOR24B (io), 49 IOR24A (io), 50 IOR22B (io), 51 IOR17B/GCLKC_3 (io), 52 IOR17A/GCLKT_3 (io), 53 IOR15B/DOUT/WE_N (io), 54 IOR15A/DIN/CLKHOLD_N (io), 55 IOR14B/SSPI_CS_N/D0 (io), 56 IOR14A/SO/D1 (io), 57 IOR13A/FASTRD_N/D3 (io), 58 VCCO1 (power), 59 IOR12B/MCLK/D4 (io), 60 IOR12A/MCS_N/D5 (io), 61 IOR11B/MO/D6 (io), 62 IOR11A/MI/D7 (io), 63 IOR5A/RPLL_T_IN (io), 64 VCCX (power), 65 VSS (power), 66 VCC (power), 67 VCCO0 (power), 68 IOT42B (io), 69 IOT42A (io), 70 IOT41B (io), 71 IOT41A (io), 72 IOT39B (io), 73 IOT39A (io), 74 IOT38B (io), 75 IOT38A (io), 76 IOT37B (io), 77 IOT37A (io), 78 VCCX (power), 79 IOT12B (io), 80 IOT12A (io), 81 IOT11B (io), 82 IOT11A (io), 83 IOT10B (io), 84 IOT10A (io), 85 IOT8B (io), 86 IOT8A (io), 87 IOT6B/MODE1 (io), 88 IOT5A/MODE0 (io), 89 EXP (power)

## HR911105A
designator J?
RJ45 Isolated Connector + LED DIP Package; MP: HR911105A; MF: hanrun; SnapEDA_Link: https://www.snapeda.com/parts/HR911105A/HanRun/view-part/?ref=snap; Package: None; Check_prices: https://www.snapeda.com/parts/HR911105A/HanRun/view-part/?ref=eda; Price: None; Value: *; Availability: Not in stock
footprint HANRUN_HR911105A
pins: 1 TD+, 2 TD-, 3 RD+, 4 P4, 5 P5, 6 RD-, 7 GND (power), 8 GND (power), 9 GA, 10 GC, 11 YC, 12 YA, 15 SHIELD, 16 SHIELD
text: Green LED; Yellow LED

## IHLP2525CZER220M8A
designator L?
Fixed Inductor 22uH 2.8A 174 mOHM SMD; Manufacturer_Name: Vishay; Manufacturer_Part_Number: IHLP2525CZER220M8A; Datasheet Link: https://componentsearchengine.com/Datasheets/2/IHLP2525CZER220M8A.pdf; Height: 3mm; Mouser Part Number: 70-IHLP2525CZR220M8A; Mouser Price/Stock: https://www.mouser.co.uk/ProductDetail/Vishay-Dale/IHLP2525CZER220M8A?qs=ei%2FvZTf36ZyKyW60gc1ORQ%3D%3D; Arrow Part Number: IHLP2525CZER220M8A; Arrow Price/Stock: https://www.arrow.com/en/products/ihlp2525czer220m8a/vishay
footprint INDPM6965X300N
pins: 1, 2

## INA139NA_3K
designator U?
%0.5 Current Monitor 60V Analog SMD; Manufacturer_Name: Texas Instruments; Manufacturer_Part_Number: INA139NA/3K; Datasheet Link: http://www.ti.com/lit/gpn/ina139; Height: 1.45mm; Mouser Part Number: 595-INA139NA/3K; Mouser Price/Stock: https://www.mouser.co.uk/ProductDetail/Texas-Instruments/INA139NA-3K?qs=VBduBm9rCJS5yg1Xiaw5Dw%3D%3D; Arrow Part Number: INA139NA/3K; Arrow Price/Stock: https://www.arrow.com/en/products/ina139na3k/texas-instruments?region=nac
footprint SOT95P280X145-5N
pins: 1 OUT, 2 GND, 3 VIN+, 4 VIN-, 5 V+

## IS43TR16640C-125JBLI
designator U?
DDR3 1GB Size RAM 1.5V; Manufacturer_Name: Integrated Silicon Solution Inc.; Manufacturer_Part_Number: IS43TR16640C-125JBLI; Datasheet Link: https://www.mouser.in/datasheet/2/198/43_46TR16640C_81280CL-1663660.pdf; Height: 1.2mm; Mouser Part Number: 870-16640C-125JBLI; Mouser Price/Stock: https://www.mouser.co.uk/ProductDetail/ISSI/IS43TR16640C-125JBLI?qs=BJlw7L4Cy786chbx1%252BXV%252Bg%3D%3D; Arrow Part Number: IS43TR16640C-125JBLI; Arrow Price/Stock: https://www.arrow.com/en/products/is43tr16640c-125jbli/integrated-silicon-solution-inc?region=nac
footprint BGA96C80P9X16_900X1300X120
pins: A1 VDDQ_1, A2 DQU5, A3 DQU7, A7 DQU4, A8 VDDQ_2, A9 VSS_1, B1 VSSQ_1, B2 VDD_1, B3 VSS_2, B7 DQSU#, B8 DQU6, B9 VSSQ_2, C1 VDDQ_3, C2 DQU3, C3 DQU1, C7 DQSU, C8 DQU2, C9 VDDQ_4, D1 VSSQ_3, D2 VDDQ_5, D3 DMU, D7 DQU0, D8 VSSQ_4, D9 VDD_2, E1 VSS_3, E2 VSSQ_5, E3 DQL0, E7 DML, E8 VSSQ_6, E9 VDDQ_6, F1 VDDQ_7, F2 DQL2, F3 DQSL, F7 DQL1, F8 DQL3, F9 VSSQ_7, G1 VSSQ_8, G2 DQL6, G3 DQSL#, G7 VDD_3, G8 VSS_4, G9 VSSQ_9, H1 VREFDQ, H2 VDDQ_8, H3 DQL4, H7 DQL7, H8 DQL5, H9 VDDQ_9, J1 NC_1, J2 VSS_5, J3 RAS#, J7 CK, J8 VSS_6, J9 NC_2, K1 ODT, K2 VDD_4, K3 CAS#, K7 CK#, K8 VDD_5, K9 CKE, L1 NC_3, L2 CS#, L3 WE#, L7 A10/AP, L8 ZQ, L9 NC_4, M1 VSS_7, M2 BA0, M3 BA2, M7 NC(A15), M8 VREFCA, M9 VSS_8, N1 VDD_6, N2 A3, N3 A0, N7 A12/BC#, N8 BA1, N9 VDD_7, P1 VSS_9, P2 A5, P3 A2, P7 A1, P8 A4, P9 VSS_10, R1 VDD_8, R2 A7, R3 A9, R7 A11, R8 A6, R9 VDD_9, T1 VSS_11, T2 RESET#, T3 NC(A13), T7 NC(A14), T8 A8, T9 VSS_12

## ISO7720D
designator U?
Digtial +3.3V - +5V Isolator; Manufacturer_Name: Analog Devices; Manufacturer_Part_Number: ADUM1200ARZ; Datasheet Link: http://uk.rs-online.com/web/p/products/4966825; Height: 1.75mm; Mouser Part Number: 584-ADUM1200ARZ; Mouser Price/Stock: https://www.mouser.co.uk/ProductDetail/Analog-Devices/ADUM1200ARZ?qs=WIvQP4zGanjrsLKTNS%2FKdg%3D%3D; Arrow Part Number: ADUM1200ARZ; Arrow Price/Stock: https://www.arrow.com/en/products/adum1200arz/analog-devices?region=europe
footprint SOIC127P600X175-8N
pins: 1 VDD1, 2 VIA, 3 VIB, 4 GND1, 5 GND2, 6 VOB, 7 VOA, 8 VDD2

## JQC-3F-(T73)-1Z-5VDC
designator RL?
Generic 5V Relay; MF: Songle Relay; MP: SRD-05VDC-SL-C; Check_prices: https://www.snapeda.com/parts/SRD-05VDC-SL-C/Songle+Relay/view-part/?ref=eda; Value: *; Availability: Not in stock; Price: None; Package: NON STANDARD-5 Songle Relay; SnapEDA_Link: https://www.snapeda.com/parts/SRD-05VDC-SL-C/Songle+Relay/view-part/?ref=snap
footprint RELAY-5VDC
pins: A1, A2, COM, NC, NO

## LAN8720ACP
designator U?
10-100Mbps Ethernet PHY Transreceiver IC; Manufacturer_Name: Microchip; Manufacturer_Part_Number: LAN8720ACP; Datasheet Link: http://ww1.microchip.com/downloads/en/DeviceDoc/8720a.pdf; Height: 1mm
footprint QFN50P400X400X100-25N-D
pins: 1 VDD2A, 2 LED2/~{NINTSEL}, 3 LED1/~{REGOFF}, 4 XTAL2, 5 XTAL1/CLKIN, 6 VDDCR, 7 RXD1/~{MODE1}, 8 RXD0/~{MODE0}, 9 VDDIO, 10 RXER/~{PHYAD0}, 11 CRS_DV/~{MODE2}, 12 MDIO, 13 MDC, 14 NINT/REFCLKO, 15 NRST, 16 TXEN, 17 TXD0, 18 TXD1, 19 VDD1A, 20 TXN, 21 TXP, 22 RXN, 23 RXP, 24 RBIAS, 25 VSS

## LCB2012-152Y-N
designator FB?
Ferrite Bead 1A 0805 SMD
footprint Inductor-0805
pins: 1, 2

## LMR51430YDDCR
designator U?
+36V 3A Buck Converter 1.1MHz; Manufacturer_Name: Texas Instruments; Manufacturer_Part_Number: LMR51430YDDCR; Datasheet Link: https://www.ti.com/lit/ds/symlink/lmr51430.pdf?ts=1657817980313&ref_url=https%253A%252F%252Fwww.ti.com%252Fproduct%252FLMR51430%253FkeyMatch%253DLMR51430%2526tisearch%253Dsearch-everything%2526usecase%253DGPN; Height: 1.1mm; Mouser Part Number: 595-LMR51430YDDCR; Mouser Price/Stock: https://www.mouser.co.uk/ProductDetail/Texas-Instruments/LMR51430YDDCR?qs=vvQtp7zwQdMdLcsY5sFiMg%3D%3D; Arrow Part Number: LMR51430YDDCR; Arrow Price/Stock: https://www.arrow.com/en/products/lmr51430yddcr/texas-instruments?region=nac
footprint SOT95P280X110-6N
pins: 1 GND, 2 SW, 3 VIN, 4 FB, 5 EN, 6 CB

## LSM6DSOTR
designator U?
+3.3V Inertal Measurement Unit Sensor ST; Manufacturer_Name: STMicroelectronics; Manufacturer_Part_Number: LSM6DSOTR; Datasheet Link: https://www.st.com/resource/en/datasheet/lsm6dso.pdf; Mouser Part Number: 511-LSM6DSOTR; Mouser Price/Stock: https://www.mouser.co.uk/ProductDetail/STMicroelectronics/LSM6DSOTR?qs=lc2O%252BfHJPVbD197C5c7oNw%3D%3D; Arrow Part Number: LSM6DSOTR; Arrow Price/Stock: https://www.arrow.com/en/products/lsm6dsotr/stmicroelectronics?region=nac
footprint LGA-14(2.5X3X0.86)
pins: 1 SDO/SA0, 2 SDX, 3 SCX, 4 INT1, 5 VDDIO, 6 GND_1, 7 GND_2, 8 VDD, 9 INT2, 10 OCS_AUX, 11 SDO_AUX, 12 CS, 13 SCL, 14 SDA

## LT1963AEST-1.5#TRPBF
designator U?
Linear Voltage Regulator IC Positive Fixed 1 Output 1.5A SOT-223-3; MF: Analog Devices; MP: LT1963AEST-1.5#TRPBF; SnapEDA_Link: https://www.snapeda.com/parts/LT1963AEST-1.5%23TRPBF/Analog+Devices/view-part/?ref=snap; Package: SOT-223-3 Linear Technology; Value: *; Check_prices: https://www.snapeda.com/parts/LT1963AEST-1.5%23TRPBF/Analog+Devices/view-part/?ref=eda
footprint SOT229P700X180-4N
pins: 1 IN (in), 2 GND (power), 3 OUT, 4 GND (power)

## LTST-C190TGKT
designator LED?
20mA Generic 0603 Led SMD; Manufacturer_Name: Lite-On; Manufacturer_Part_Number: LTST-C190KRKT; Datasheet Link: https://componentsearchengine.com/Datasheets/1/LTST-C190KRKT.pdf; Height: 0.8mm; Mouser Part Number: 859-LTST-C190KRKT; Mouser Price/Stock: https://www.mouser.co.uk/ProductDetail/Lite-On/LTST-C190KRKT?qs=kAD5fFa1n5VY3YYNWPC1Fg%3D%3D; Arrow Part Number: LTST-C190KRKT; Arrow Price/Stock: https://www.arrow.com/en/products/ltst-c190krkt/lite-on-technology?region=europe
footprint LEDC1608X80N
pins: 1 K, 2 A

## MAX9814ETD+T
designator U?
Analog Pre Amplifier IC +3.3V - +5V; Manufacturer_Name: Analog Devices; Manufacturer_Part_Number: MAX9814ETD+T; Datasheet Link: https://www.analog.com/MAX9814/datasheet; Height: 0.8mm; Mouser Part Number: 700-MAX9814ETDT; Mouser Price/Stock: https://www.mouser.co.uk/ProductDetail/Analog-Devices-Maxim-Integrated/MAX9814ETD%2bT?qs=1THa7WoU59HUZGorIAH%2Frw%3D%3D; Arrow Part Number: MAX9814ETD+T; Arrow Price/Stock: null?region=nac
footprint SON40P300X300X80-15N
pins: 1 CT, 2 ~{SHDN}, 3 CG, 4 N.C._1, 5 VDD, 6 MICOUT, 7 GND, 8 MICIN, 9 A/R, 10 GAIN, 11 N.C._2, 12 BIAS, 13 MICBIAS, 14 TH, 15 EP

## MAX9860ETG+T
designator U?
Digital Codec IC; Manufacturer_Name: Analog Devices; Manufacturer_Part_Number: MAX9860ETG+T; Datasheet Link: https://datasheets.maximintegrated.com/en/ds/MAX9860.pdf; Height: 0.8mm; Mouser Part Number: 700-MAX9860ETGT; Mouser Price/Stock: https://www.mouser.co.uk/ProductDetail/Analog-Devices-Maxim-Integrated/MAX9860ETG%2bT?qs=LHmEVA8xxfYGy2Ln2j7A4Q%3D%3D; Arrow Part Number: MAX9860ETG+T; Arrow Price/Stock: https://www.arrow.com/en/products/max9860etgt/maxim-integrated?region=nac
footprint QFN50P400X400X80-25N
pins: 1 MICBIAS, 2 REG, 3 PREG, 4 REF, 5 AGND, 6 AVDD, 7 OUTP, 8 OUTN, 9 SDA, 10 SCL, 11 DVDDIO, 12 DGND, 13 DVDD, 14 MCLK, 15 SDOUT, 16 SDIN, 17 LRCLK, 18 BCLK, 19 ~{IRQ}, 20 MICRN, 21 MICRP, 22 MICLN, 23 MICLP, 24 MICGND, 25 EP

## MCP2561-E_SN
designator U?
HIGH SPEED CANBUS TRANSRECEIVER + 5V; Manufacturer_Name: Microchip; Manufacturer_Part_Number: MCP2561-E/SN; Datasheet Link: http://uk.rs-online.com/web/p/products/7990216; Height: 1.75mm; Mouser Part Number: 579-MCP2561-E/SN; Mouser Price/Stock: https://www.mouser.co.uk/ProductDetail/Microchip-Technology/MCP2561-E-SN?qs=6qKXPk0vzx28OXZ8VYnZ2A%3D%3D; Arrow Part Number: MCP2561-E/SN; Arrow Price/Stock: https://www.arrow.com/en/products/mcp2561-esn/microchip-technology?region=nac
footprint SOIC127P600X175-8N
pins: 1 TXD, 2 VSS, 3 VDD, 4 RXD, 5 SPLIT, 6 CANL, 7 CANH, 8 STBY

## MCP6002-I_MS
designator U?
Rail to Rail +5V Operational Amplifier; Manufacturer_Name: Microchip; Manufacturer_Part_Number: MCP6002-I/MS; Datasheet Link: https://datasheet.datasheetarchive.com/originals/distributors/Datasheets-DGA24/1612149.pdf; Height: 1.1mm; Mouser Part Number: 579-MCP6002-I/MS; Mouser Price/Stock: https://www.mouser.co.uk/ProductDetail/Microchip-Technology/MCP6002-I-MS?qs=cUeqqamUra%2FBe1qC6EG%2FuA%3D%3D; Arrow Part Number: MCP6002-I/MS; Arrow Price/Stock: https://www.arrow.com/en/products/mcp6002-ims/microchip-technology?region=europe
footprint SOP65P490X110-8N
pins: 1 VOUTA, 2 VINA-, 3 VINA+, 4 VSS, 5 VINB+, 6 VINB-, 7 VOUTB, 8 VDD

## MEM2067-02-180-00-A_REVB
designator J?
Micro SD Memory Card ConnectorSMT, Hinged, 1.80mm Profile; MP: MEM2067-02-180-00-A_REVB; Price: None; Value: *; Package: None; Availability: Unavailable
footprint GCT_MEM2067-02-180-00-A_REVB
pins: 1 DAT2 (io), 2 CD/DAT3 (io), 3 CMD (io), 4 VDD (power), 5 CLK (io), 6 VSS (power), 7 DAT0 (io), 8 DAT1 (io), SHIELD

## MIC23150-55YMT-TR
designator U?
No Description Available; Mfr_Name: Microchip; RefDes: RefDes; Type: Type
footprint MLF-8_MT_MCH
pins: 1 SW, 2 SW, 3 EN, 4 SNS, 5 AGND (power), 6 VIN, 7 VIN, 8 PGND (power)

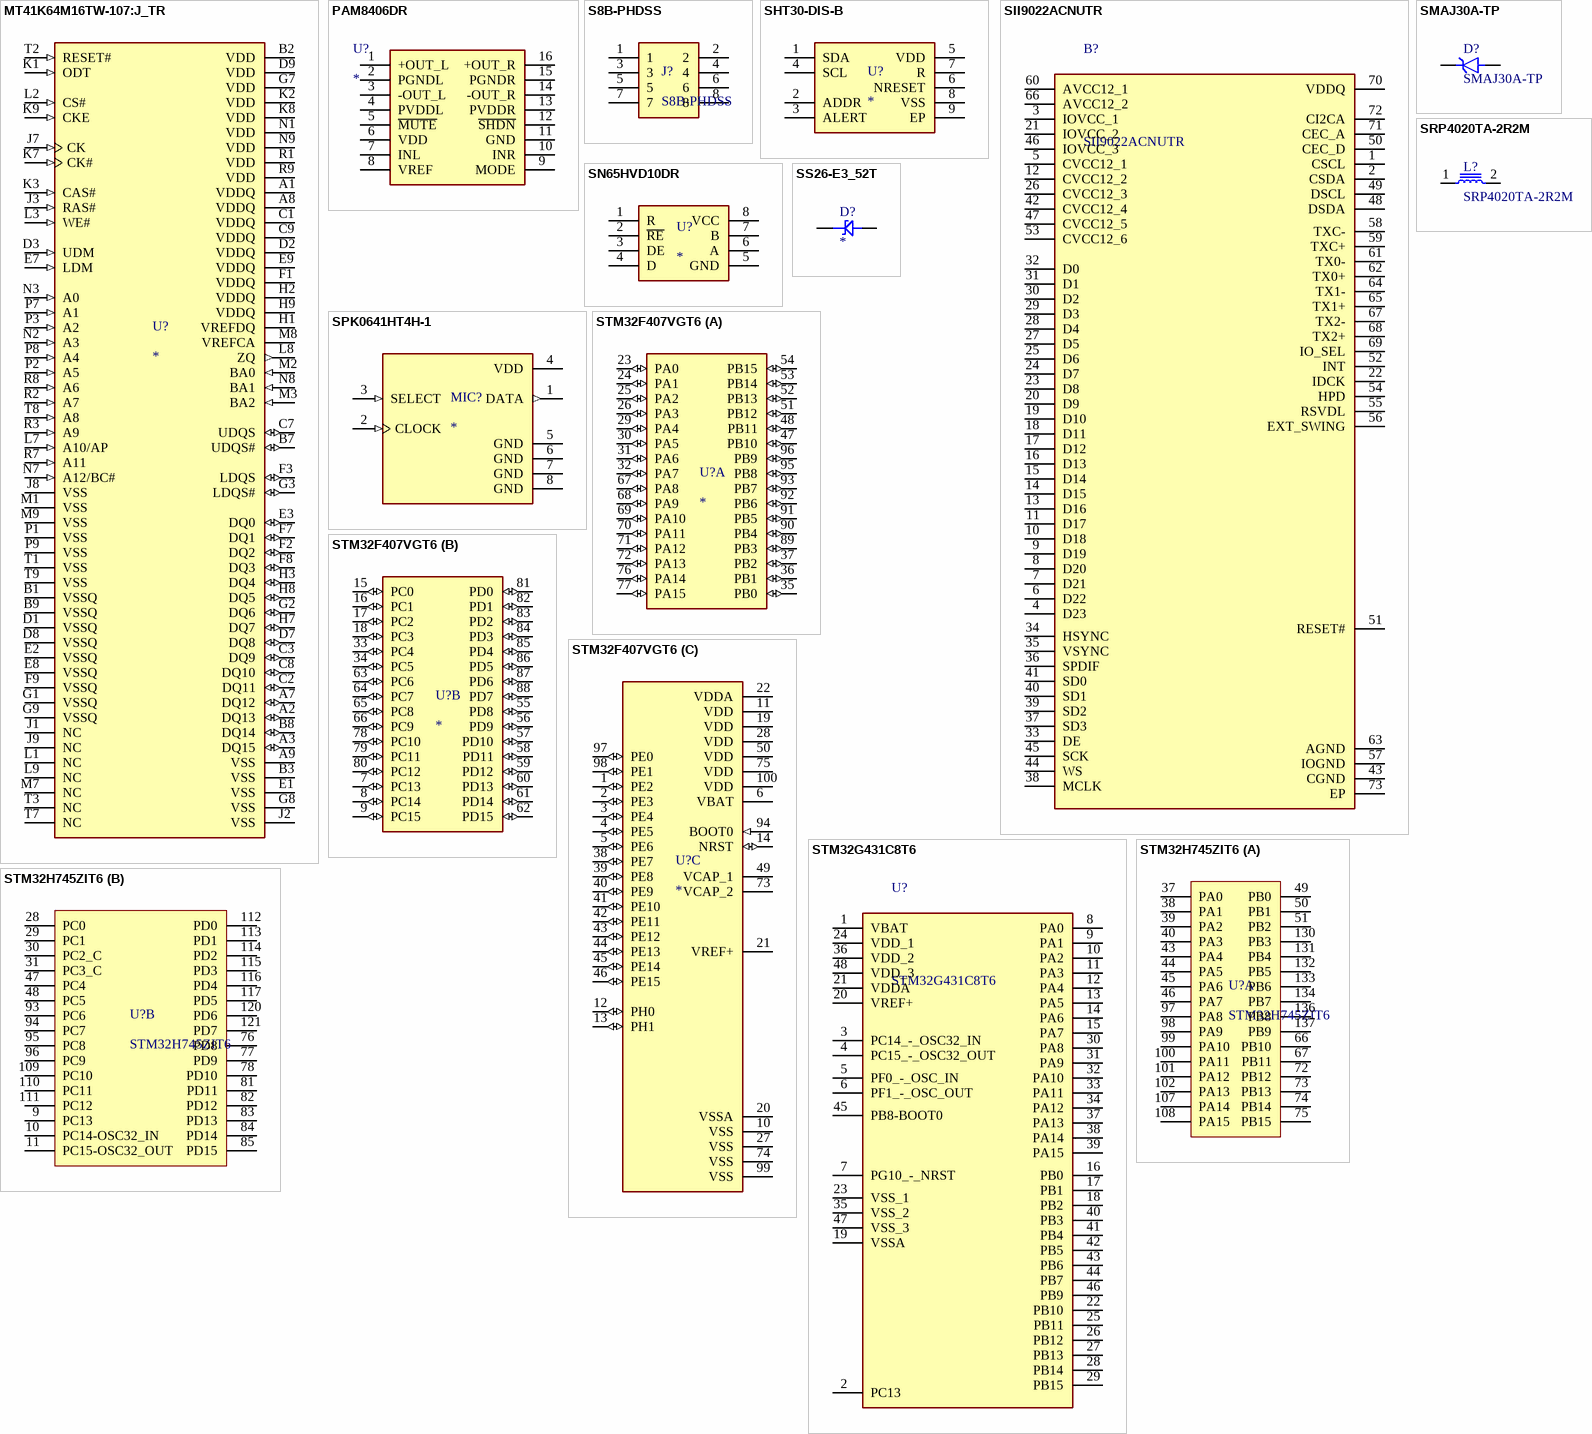
[diagram p3: symbols MT41K64M16TW-107:J_TR to STM32H745ZIT6]

## MT41K64M16TW-107:J_TR
designator U?
SDRAM - DDR3L Memory IC 1Gb (64M x 16) Parallel 933MHz 20ns 96-FBGA (8x14); MF: Micron Technology Inc.; MP: MT41K64M16TW-107:J TR; Package: None; Check_prices: https://www.snapeda.com/parts/MT41K64M16TW-107:J%20TR/Micron/view-part/5640273/?ref=eda; Price: None; SnapEDA_Link: https://www.snapeda.com/parts/MT41K64M16TW-107:J%20TR/Micron/view-part/5640273/?ref=snap; Value: *; Purchase-URL: https://pricing.snapeda.com/search/part/MT41K64M16TW-107:J TR/?ref=eda; Availability: Warning
footprint BGA96C80P9X16_1400X800X120N
pins: A1 VDDQ (power), A2 DQ13 (io), A3 DQ15 (io), A7 DQ12 (io), A8 VDDQ (power), A9 VSS (power), B1 VSSQ (power), B2 VDD (power), B3 VSS (power), B7 UDQS# (io), B8 DQ14 (io), B9 VSSQ (power), C1 VDDQ (power), C2 DQ11 (io), C3 DQ9 (io), C7 UDQS (io), C8 DQ10 (io), C9 VDDQ (power), D1 VSSQ (power), D2 VDDQ (power), D3 UDM (in), D7 DQ8 (io), D8 VSSQ (power), D9 VDD (power), E1 VSS (power), E2 VSSQ (power), E3 DQ0 (io), E7 LDM (in), E8 VSSQ (power), E9 VDDQ (power), F1 VDDQ (power), F2 DQ2 (io), F3 LDQS (io), F7 DQ1 (io), F8 DQ3 (io), F9 VSSQ (power), G1 VSSQ (power), G2 DQ6 (io), G3 LDQS# (io), G7 VDD (power), G8 VSS (power), G9 VSSQ (power), H1 VREFDQ (power), H2 VDDQ (power), H3 DQ4 (io), H7 DQ7 (io), H8 DQ5 (io), H9 VDDQ (power), J1 NC, J2 VSS (power), J3 RAS# (in), J7 CK (in), J8 VSS (power), J9 NC, K1 ODT (in), K2 VDD (power), K3 CAS# (in), K7 CK# (in), K8 VDD (power), K9 CKE (in), L1 NC, L2 CS# (in), L3 WE# (in), L7 A10/AP (in), L8 ZQ (out), L9 NC, M1 VSS (power), M2 BA0 (in), M3 BA2 (in), M7 NC, M8 VREFCA (power), M9 VSS (power), N1 VDD (power), N2 A3 (in), N3 A0 (in), N7 A12/BC# (in), N8 BA1 (in), N9 VDD (power), P1 VSS (power), P2 A5 (in), P3 A2 (in), P7 A1 (in), P8 A4 (in), P9 VSS (power), R1 VDD (power), R2 A7 (in), R3 A9 (in), R7 A11 (in), R8 A6 (in), R9 VDD (power), T1 VSS (power), T2 RESET# (in), T3 NC, T7 NC, T8 A8 (in), T9 VSS (power)

## PAM8406DR
designator U?
Audio Amplifier D Class 5W; Manufacturer_Name: Diodes Incorporated; Manufacturer_Part_Number: PAM8406DR; Datasheet Link: https://www.diodes.com//assets/Datasheets/PAM8406.pdf; Height: 1.26mm; Mouser Part Number: 621-PAM8406DR; Mouser Price/Stock: https://www.mouser.co.uk/ProductDetail/Diodes-Incorporated/PAM8406DR?qs=%252BSlWJf1dfkLK5VNh%252Bez%2F0Q%3D%3D; Arrow Part Number: PAM8406DR; Arrow Price/Stock: https://www.arrow.com/en/products/pam8406dr/diodes-incorporated?region=asia
footprint SOIC127P600X126-16N
pins: 1 +OUT_L, 2 PGNDL, 3 -OUT_L, 4 PVDDL, 5 ~{MUTE}, 6 VDD, 7 INL, 8 VREF, 9 MODE, 10 INR, 11 GND, 12 ~{SHDN}, 13 PVDDR, 14 -OUT_R, 15 PGNDR, 16 +OUT_R

## S8B-PHDSS
designator J?
Connector Header Through Hole, Right Angle 8 position 0.079 _2.00mm_; MF: JST Sales; SnapEDA_Link: https://www.snapeda.com/parts/S8B-PHDSS/JST%20Sales%20America%20Inc./view-part/761599/?ref=snap; Value: *; Price: None; Availability: Unavailable; MP: S8B-PHDSS; Package: None
footprint JST_S8B-PHDSS
pins: 1, 2, 3, 4, 5, 6, 7, 8

## SHT30-DIS-B
designator U?
I2C Temp Humd Sensor SMD; Manufacturer_Name: Sensirion; Manufacturer_Part_Number: SHT30-DIS-B; Datasheet Link: https://datasheet.datasheetarchive.com/originals/distributors/DKDS-37/728933.pdf; Height: 1mm; Mouser Part Number: 403-SHT30-DIS-B; Mouser Price/Stock: https://www.mouser.com/Search/Refine.aspx?Keyword=403-SHT30-DIS-B
footprint SON50P250X250X100-9N-D
pins: 1 SDA, 2 ADDR, 3 ALERT, 4 SCL, 5 VDD, 6 NRESET, 7 R, 8 VSS, 9 EP

## SII9022ACNUTR
designator B?
Lattice 24-Bit RGB Input HDMI 1.4a Transmitter, 1080p@60Hz, no HDCP, 72-pin QFN; Manufacturer_Name: Lattice Semiconductor; Geometry.Height: 0.9mm; Manufacturer_Part_Number: SII9022ACNUTR; Mouser Part Number: N/A; Mouser Price/Stock: https://www.mouser.co.uk/ProductDetail/Lattice/SII9022ACNUTR?qs=r5DSvlrkXmLhItAO6heK4A%3D%3D; Arrow Part Number: SII9022ACNUTR; Arrow Price/Stock: https://www.arrow.com/en/products/sii9022acnutr/lattice-semiconductor?region=nac; Datasheet Link: *
footprint QFN50P1000X1000X90-73N-D
pins: 1 CSCL, 2 CSDA, 3 IOVCC_1, 4 D23, 5 CVCC12_1, 6 D22, 7 D21, 8 D20, 9 D19, 10 D18, 11 D17, 12 CVCC12_2, 13 D16, 14 D15, 15 D14, 16 D13, 17 D12, 18 D11, 19 D10, 20 D9, 21 IOVCC_2, 22 IDCK, 23 D8, 24 D7, 25 D6, 26 CVCC12_3, 27 D5, 28 D4, 29 D3, 30 D2, 31 D1, 32 D0, 33 DE, 34 HSYNC, 35 VSYNC, 36 SPDIF, 37 SD3, 38 MCLK, 39 SD2, 40 SD1, 41 SD0, 42 CVCC12_4, 43 CGND, 44 WS, 45 SCK, 46 IOVCC_3, 47 CVCC12_5, 48 DSDA, 49 DSCL, 50 CEC_D, 51 RESET#, 52 INT, 53 CVCC12_6, 54 HPD, 55 RSVDL, 56 EXT_SWING, 57 IOGND, 58 TXC-, 59 TXC+, 60 AVCC12_1, 61 TX0-, 62 TX0+, 63 AGND, 64 TX1-, 65 TX1+, 66 AVCC12_2, 67 TX2-, 68 TX2+, 69 IO_SEL, 70 VDDQ, 71 CEC_A, 72 CI2CA, 73 EP

## SMAJ30A-TP
designator D?
TVS Diode (Uni-directional); Manufacturer_Name: MCC; Datasheet Link: https://www.mccsemi.com/pdf/Products/SMAJ5.0A-SMAJ440CA(SMA).pdf; Height: 2.3mm; Manufacturer_Part_Number: SMAJ30A-TP; Mouser Part Number: 833-SMAJ30A-TP; Mouser Price/Stock: https://www.mouser.co.uk/ProductDetail/Micro-Commercial-Components-MCC/SMAJ30A-TP?qs=ZNK0BnemlqGyA6NYIecqnw%3D%3D; Arrow Part Number: SMAJ30A-TP; Arrow Price/Stock: https://www.arrow.com/en/products/smaj30a-tp/micro-commercial-components
footprint DIOM5226X230N
pins: 1, 2

## SN65HVD10DR
designator U?
3.3V RS485 TRANSRECEIVER IC; Manufacturer_Name: Texas Instruments; Manufacturer_Part_Number: SN65HVD10DR; Datasheet Link: http://www.ti.com/lit/gpn/sn65hvd10; Height: 1.75mm; Mouser Part Number: 595-SN65HVD10DR; Mouser Price/Stock: https://www.mouser.co.uk/ProductDetail/Texas-Instruments/SN65HVD10DR?qs=QViXGNcIEAviyhAwS0yoXQ%3D%3D; Arrow Part Number: SN65HVD10DR; Arrow Price/Stock: https://www.arrow.com/en/products/sn65hvd10dr/texas-instruments?region=nac
footprint SOIC127P600X175-8N
pins: 1 R, 2 ~{RE}, 3 DE, 4 D, 5 GND, 6 A, 7 B, 8 VCC

## SPK0641HT4H-1
designator MIC?
20 Hz ~ 20 kHz Digital, PDM Microphone MEMS (Silicon) 1.6 V ~ 3.6 V Omnidirectional (-26dB Â±1dB @ 94dB SPL) Solder Pads; MF: Knowles; MP: SPK0641HT4H-1; Value: *; Check_prices: https://www.snapeda.com/parts/SPK0641HT4H-1/Knowles/view-part/?ref=eda; Purchase-URL: https://pricing.snapeda.com/search/part/SPK0641HT4H-1/?ref=eda; Price: None; SnapEDA_Link: https://www.snapeda.com/parts/SPK0641HT4H-1/Knowles/view-part/?ref=snap; Availability: In Stock; Package: None
footprint MIC_SPK0641HT4H-1
pins: 1 DATA (out), 2 CLOCK (in), 3 SELECT (in), 4 VDD (power), 5 GND (power), 6 GND (power), 7 GND (power), 8 GND (power)

## SRP4020TA-2R2M
designator L?
SRP4020TA-2R2M 4A Inductor; Manufacturer_Name: Vishay; Manufacturer_Part_Number: IHLP2525CZER220M8A; Datasheet Link: https://componentsearchengine.com/Datasheets/2/IHLP2525CZER220M8A.pdf; Height: 3mm; Mouser Part Number: 70-IHLP2525CZR220M8A; Mouser Price/Stock: https://www.mouser.co.uk/ProductDetail/Vishay-Dale/IHLP2525CZER220M8A?qs=ei%2FvZTf36ZyKyW60gc1ORQ%3D%3D; Arrow Part Number: IHLP2525CZER220M8A; Arrow Price/Stock: https://www.arrow.com/en/products/ihlp2525czer220m8a/vishay
footprint INDC4441X200N
pins: 1, 2

## SS26-E3_52T
designator D?
2A SMD Schottky Diode; Manufacturer_Name: Vishay; Manufacturer_Part_Number: SS26-E3/52T; Datasheet Link: https://componentsearchengine.com/Datasheets/2/SS26-E3_52T.pdf; Height: 2.44mm; Mouser Part Number: 625-SS26-E3; Mouser Price/Stock: https://www.mouser.co.uk/ProductDetail/Vishay-General-Semiconductor/SS26-E3-52T?qs=x2jpVgRnAtNToatHaCRUvw%3D%3D; Arrow Part Number: SS26-E3/52T; Arrow Price/Stock: https://www.arrow.com/en/products/ss26-e352t/vishay?region=europe
footprint DIOM5436X244N
pins: 1 K, 2 A

## STM32F407VGT6
designator U?
STM32 Series 32-bit 1 MB Flash 192 kB RAM ARM Based Microcontroller - LQFP-100; MP: STM32F407VGT6; Price: None; Value: *; Package: None; Availability: Unavailable
footprint QFP50P1600X1600X160-100N
part A pins: 23 PA0 (io), 24 PA1 (io), 25 PA2 (io), 26 PA3 (io), 29 PA4 (io), 30 PA5 (io), 31 PA6 (io), 32 PA7 (io), 35 PB0 (io), 36 PB1 (io), 37 PB2 (io), 47 PB10 (io), 48 PB11 (io), 51 PB12 (io), 52 PB13 (io), 53 PB14 (io), 54 PB15 (io), 67 PA8 (io), 68 PA9 (io), 69 PA10 (io), 70 PA11 (io), 71 PA12 (io), 72 PA13 (io), 76 PA14 (io), 77 PA15 (io), 89 PB3 (io), 90 PB4 (io), 91 PB5 (io), 92 PB6 (io), 93 PB7 (io), 95 PB8 (io), 96 PB9 (io)
part B pins: 7 PC13 (io), 8 PC14 (io), 9 PC15 (io), 15 PC0 (io), 16 PC1 (io), 17 PC2 (io), 18 PC3 (io), 33 PC4 (io), 34 PC5 (io), 55 PD8 (io), 56 PD9 (io), 57 PD10 (io), 58 PD11 (io), 59 PD12 (io), 60 PD13 (io), 61 PD14 (io), 62 PD15 (io), 63 PC6 (io), 64 PC7 (io), 65 PC8 (io), 66 PC9 (io), 78 PC10 (io), 79 PC11 (io), 80 PC12 (io), 81 PD0 (io), 82 PD1 (io), 83 PD2 (io), 84 PD3 (io), 85 PD4 (io), 86 PD5 (io), 87 PD6 (io), 88 PD7 (io)
part C pins: 1 PE2 (io), 2 PE3 (io), 3 PE4 (io), 4 PE5 (io), 5 PE6 (io), 6 VBAT (power), 10 VSS (power), 11 VDD (power), 12 PH0 (io), 13 PH1 (io), 14 NRST (io), 19 VDD (power), 20 VSSA (power), 21 VREF+ (power), 22 VDDA (power), 27 VSS (power), 28 VDD (power), 38 PE7 (io), 39 PE8 (io), 40 PE9 (io), 41 PE10 (io), 42 PE11 (io), 43 PE12 (io), 44 PE13 (io), 45 PE14 (io), 46 PE15 (io), 49 VCAP_1, 50 VDD (power), 73 VCAP_2, 74 VSS (power), 75 VDD (power), 94 BOOT0 (in), 97 PE0 (io), 98 PE1 (io), 99 VSS (power), 100 VDD (power)

## STM32G431C8T6
designator U?
ARM Microcontrollers - MCU 16/32-BITS MICROS; Manufacturer_Name: STMicroelectronics; Geometry.Height: 1.6mm; Manufacturer_Part_Number: STM32G431C8T6; Mouser Part Number: 511-STM32G431C8T6; Mouser Price/Stock: https://www.mouser.co.uk/ProductDetail/STMicroelectronics/STM32G431C8T6?qs=uwxL4vQweFOOjnpxgi%252Bn1g%3D%3D; Arrow Part Number: STM32G431C8T6; Arrow Price/Stock: https://www.arrow.com/en/products/stm32g431c8t6/stmicroelectronics?utm_currency=USD&region=nac; Datasheet Link: https://www.arrow.com/en/products/stm32g431c8t6/stmicroelectronics
footprint QFP50P900X900X160-48N
pins: 1 VBAT, 2 PC13, 3 PC14_-_OSC32_IN, 4 PC15_-_OSC32_OUT, 5 PF0_-_OSC_IN, 6 PF1_-_OSC_OUT, 7 PG10_-_NRST, 8 PA0, 9 PA1, 10 PA2, 11 PA3, 12 PA4, 13 PA5, 14 PA6, 15 PA7, 16 PB0, 17 PB1, 18 PB2, 19 VSSA, 20 VREF+, 21 VDDA, 22 PB10, 23 VSS_1, 24 VDD_1, 25 PB11, 26 PB12, 27 PB13, 28 PB14, 29 PB15, 30 PA8, 31 PA9, 32 PA10, 33 PA11, 34 PA12, 35 VSS_2, 36 VDD_2, 37 PA13, 38 PA14, 39 PA15, 40 PB3, 41 PB4, 42 PB5, 43 PB6, 44 PB7, 45 PB8-BOOT0, 46 PB9, 47 VSS_3, 48 VDD_3

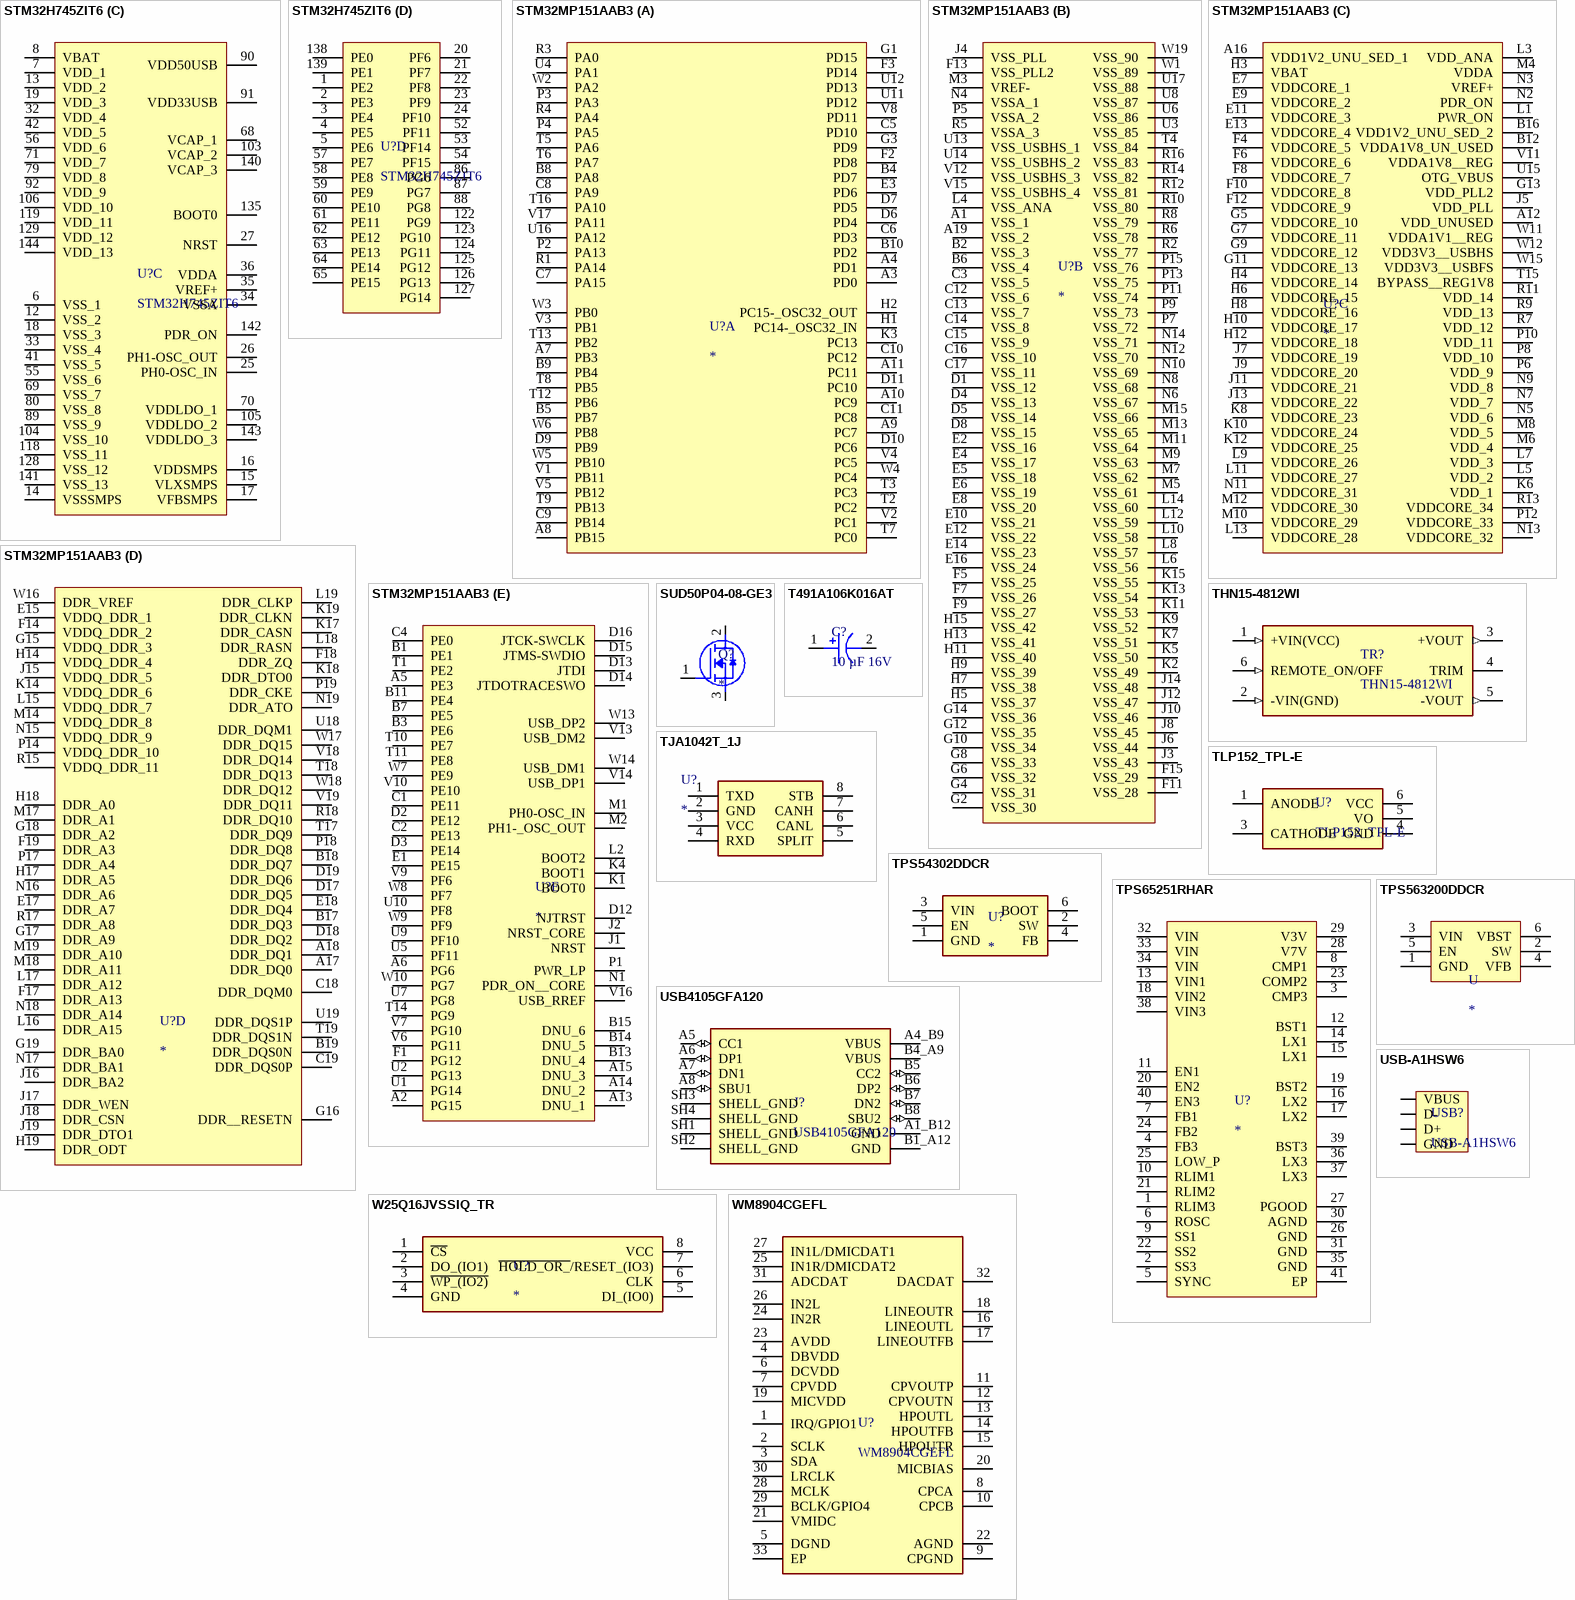
[diagram p4: symbols STM32H745ZIT6 to WM8904CGEFL]

## STM32H745ZIT6
designator U?
STM32 Series 32-Bit ARM CORTEX M7 + M4 CPU Dual Core 480MHz 3.3V Microcontroller
footprint QFP50P2200X2200X160-144N
part A pins: 37 PA0, 38 PA1, 39 PA2, 40 PA3, 43 PA4, 44 PA5, 45 PA6, 46 PA7, 49 PB0, 50 PB1, 51 PB2, 66 PB10, 67 PB11, 72 PB12, 73 PB13, 74 PB14, 75 PB15, 97 PA8, 98 PA9, 99 PA10, 100 PA11, 101 PA12, 102 PA13, 107 PA14, 108 PA15, 130 PB3, 131 PB4, 132 PB5, 133 PB6, 134 PB7, 136 PB8, 137 PB9
part B pins: 9 PC13, 10 PC14-OSC32_IN, 11 PC15-OSC32_OUT, 28 PC0, 29 PC1, 30 PC2_C, 31 PC3_C, 47 PC4, 48 PC5, 76 PD8, 77 PD9, 78 PD10, 81 PD11, 82 PD12, 83 PD13, 84 PD14, 85 PD15, 93 PC6, 94 PC7, 95 PC8, 96 PC9, 109 PC10, 110 PC11, 111 PC12, 112 PD0, 113 PD1, 114 PD2, 115 PD3, 116 PD4, 117 PD5, 120 PD6, 121 PD7
part C pins: 6 VSS_1, 7 VDD_1, 8 VBAT, 12 VSS_2, 13 VDD_2, 14 VSSSMPS, 15 VLXSMPS, 16 VDDSMPS, 17 VFBSMPS, 18 VSS_3, 19 VDD_3, 25 PH0-OSC_IN, 26 PH1-OSC_OUT, 27 NRST, 32 VDD_4, 33 VSS_4, 34 VSSA, 35 VREF+, 36 VDDA, 41 VSS_5, 42 VDD_5, 55 VSS_6, 56 VDD_6, 68 VCAP_1, 69 VSS_7, 70 VDDLDO_1, 71 VDD_7, 79 VDD_8, 80 VSS_8, 89 VSS_9, 90 VDD50USB, 91 VDD33USB, 92 VDD_9, 103 VCAP_2, 104 VSS_10, 105 VDDLDO_2, 106 VDD_10, 118 VSS_11, 119 VDD_11, 128 VSS_12, 129 VDD_12, 135 BOOT0, 140 VCAP_3, 141 VSS_13, 142 PDR_ON, 143 VDDLDO_3, 144 VDD_13
part D pins: 1 PE2, 2 PE3, 3 PE4, 4 PE5, 5 PE6, 20 PF6, 21 PF7, 22 PF8, 23 PF9, 24 PF10, 52 PF11, 53 PF14, 54 PF15, 57 PE7, 58 PE8, 59 PE9, 60 PE10, 61 PE11, 62 PE12, 63 PE13, 64 PE14, 65 PE15, 86 PG6, 87 PG7, 88 PG8, 122 PG9, 123 PG10, 124 PG11, 125 PG12, 126 PG13, 127 PG14, 138 PE0, 139 PE1